# Altium schematic symbol library fpga_modules.SchLib: 1 symbol
Pins are listed as number, name and electrical type; pins without a type are passive.

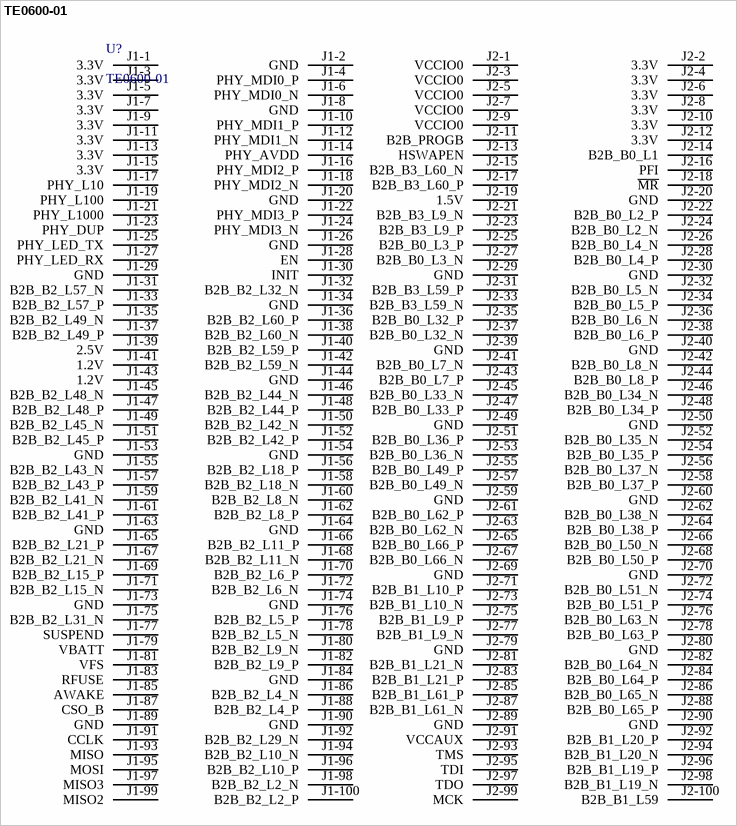
[diagram p0: symbol TE0600-01]

## TE0600-01
designator U?
footprint TE0600-01_FITTED (GigaBee XC6SLX45-2 TE0600-01)
footprint TE0600-01_NOTFITTED (GigaBee XC6SLX45-2 TE0600-01)
pins: J1-1 3.3V (power), J1-2 GND, J1-3 3.3V (power), J1-4 PHY_MDI0_P, J1-5 3.3V (power), J1-6 PHY_MDI0_N, J1-7 3.3V (power), J1-8 GND, J1-9 3.3V (power), J1-10 PHY_MDI1_P, J1-11 3.3V (power), J1-12 PHY_MDI1_N, J1-13 3.3V (power), J1-14 PHY_AVDD, J1-15 3.3V (power), J1-16 PHY_MDI2_P, J1-17 PHY_L10, J1-18 PHY_MDI2_N, J1-19 PHY_L100, J1-20 GND, J1-21 PHY_L1000, J1-22 PHY_MDI3_P, J1-23 PHY_DUP, J1-24 PHY_MDI3_N, J1-25 PHY_LED_TX, J1-26 GND, J1-27 PHY_LED_RX, J1-28 EN, J1-29 GND, J1-30 INIT, J1-31 B2B_B2_L57_N, J1-32 B2B_B2_L32_N, J1-33 B2B_B2_L57_P, J1-34 GND, J1-35 B2B_B2_L49_N, J1-36 B2B_B2_L60_P, J1-37 B2B_B2_L49_P, J1-38 B2B_B2_L60_N, J1-39 2.5V (power), J1-40 B2B_B2_L59_P, J1-41 1.2V (power), J1-42 B2B_B2_L59_N, J1-43 1.2V (power), J1-44 GND, J1-45 B2B_B2_L48_N, J1-46 B2B_B2_L44_N, J1-47 B2B_B2_L48_P, J1-48 B2B_B2_L44_P, J1-49 B2B_B2_L45_N, J1-50 B2B_B2_L42_N, J1-51 B2B_B2_L45_P, J1-52 B2B_B2_L42_P, J1-53 GND, J1-54 GND, J1-55 B2B_B2_L43_N, J1-56 B2B_B2_L18_P, J1-57 B2B_B2_L43_P, J1-58 B2B_B2_L18_N, J1-59 B2B_B2_L41_N, J1-60 B2B_B2_L8_N, J1-61 B2B_B2_L41_P, J1-62 B2B_B2_L8_P, J1-63 GND, J1-64 GND, J1-65 B2B_B2_L21_P, J1-66 B2B_B2_L11_P, J1-67 B2B_B2_L21_N, J1-68 B2B_B2_L11_N, J1-69 B2B_B2_L15_P, J1-70 B2B_B2_L6_P, J1-71 B2B_B2_L15_N, J1-72 B2B_B2_L6_N, J1-73 GND, J1-74 GND, J1-75 B2B_B2_L31_N, J1-76 B2B_B2_L5_P, J1-77 SUSPEND, J1-78 B2B_B2_L5_N, J1-79 VBATT, J1-80 B2B_B2_L9_N, J1-81 VFS, J1-82 B2B_B2_L9_P, J1-83 RFUSE, J1-84 GND, J1-85 AWAKE, J1-86 B2B_B2_L4_N, J1-87 CSO_B, J1-88 B2B_B2_L4_P, J1-89 GND, J1-90 GND, J1-91 CCLK, J1-92 B2B_B2_L29_N, J1-93 MISO, J1-94 B2B_B2_L10_N, J1-95 MOSI, J1-96 B2B_B2_L10_P, J1-97 MISO3, J1-98 B2B_B2_L2_N, J1-99 MISO2, J1-100 B2B_B2_L2_P, J2-1 VCCIO0, J2-2 3.3V, J2-3 VCCIO0, J2-4 3.3V, J2-5 VCCIO0, J2-6 3.3V, J2-7 VCCIO0, J2-8 3.3V, J2-9 VCCIO0, J2-10 3.3V, J2-11 B2B_PROGB, J2-12 3.3V, J2-13 HSWAPEN, J2-14 B2B_B0_L1, J2-15 B2B_B3_L60_N, J2-16 PFI, J2-17 B2B_B3_L60_P, J2-18 ~{MR}, J2-19 1.5V, J2-20 GND, J2-21 B2B_B3_L9_N, J2-22 B2B_B0_L2_P, J2-23 B2B_B3_L9_P, J2-24 B2B_B0_L2_N, J2-25 B2B_B0_L3_P, J2-26 B2B_B0_L4_N, J2-27 B2B_B0_L3_N, J2-28 B2B_B0_L4_P, J2-29 GND, J2-30 GND, J2-31 B2B_B3_L59_P, J2-32 B2B_B0_L5_N, J2-33 B2B_B3_L59_N, J2-34 B2B_B0_L5_P, J2-35 B2B_B0_L32_P, J2-36 B2B_B0_L6_N, J2-37 B2B_B0_L32_N, J2-38 B2B_B0_L6_P, J2-39 GND, J2-40 GND, J2-41 B2B_B0_L7_N, J2-42 B2B_B0_L8_N, J2-43 B2B_B0_L7_P, J2-44 B2B_B0_L8_P, J2-45 B2B_B0_L33_N, J2-46 B2B_B0_L34_N, J2-47 B2B_B0_L33_P, J2-48 B2B_B0_L34_P, J2-49 GND, J2-50 GND, J2-51 B2B_B0_L36_P, J2-52 B2B_B0_L35_N, J2-53 B2B_B0_L36_N, J2-54 B2B_B0_L35_P, J2-55 B2B_B0_L49_P, J2-56 B2B_B0_L37_N, J2-57 B2B_B0_L49_N, J2-58 B2B_B0_L37_P, J2-59 GND, J2-60 GND, J2-61 B2B_B0_L62_P, J2-62 B2B_B0_L38_N, J2-63 B2B_B0_L62_N, J2-64 B2B_B0_L38_P, J2-65 B2B_B0_L66_P, J2-66 B2B_B0_L50_N, J2-67 B2B_B0_L66_N, J2-68 B2B_B0_L50_P, J2-69 GND, J2-70 GND, J2-71 B2B_B1_L10_P, J2-72 B2B_B0_L51_N, J2-73 B2B_B1_L10_N, J2-74 B2B_B0_L51_P, J2-75 B2B_B1_L9_P, J2-76 B2B_B0_L63_N, J2-77 B2B_B1_L9_N, J2-78 B2B_B0_L63_P, J2-79 GND, J2-80 GND, J2-81 B2B_B1_L21_N, J2-82 B2B_B0_L64_N, J2-83 B2B_B1_L21_P, J2-84 B2B_B0_L64_P, J2-85 B2B_B1_L61_P, J2-86 B2B_B0_L65_N, J2-87 B2B_B1_L61_N, J2-88 B2B_B0_L65_P, J2-89 GND, J2-90 GND, J2-91 VCCAUX, J2-92 B2B_B1_L20_P, J2-93 TMS, J2-94 B2B_B1_L20_N, J2-95 TDI, J2-96 B2B_B1_L19_P, J2-97 TDO, J2-98 B2B_B1_L19_N, J2-99 MCK, J2-100 B2B_B1_L59